# Altium integrated library MAX491ECSD_.IntLib: 1 symbol
Pins are listed as number, name and electrical type; pins without a type are passive.

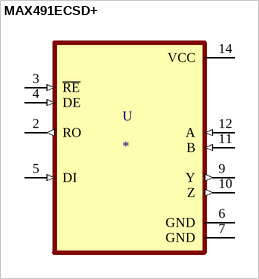
[diagram p0: symbol MAX491ECSD+]

## MAX491ECSD+
designator U
1/1 Transceiver Full RS422, RS485 14-SOIC; MF: Maxim Integrated; MP: MAX491ECSD; SnapEDA_Link: https://www.snapeda.com/parts/MAX491ECSD/Maxim%20Integrated/view-part/1476242/?ref=snap; Price: None; Availability: Unavailable; Package: SOIC-14 Maxim Integrated; Value: *
footprint SOIC127P600X175-14N
pins: 2 RO (out), 3 ~{RE} (in), 4 DE (in), 5 DI (in), 6 GND (power), 7 GND (power), 9 Y (out), 10 Z (out), 11 B (in), 12 A (in), 14 VCC (power)